# EAGLE library part REG005016 (library REG005016)
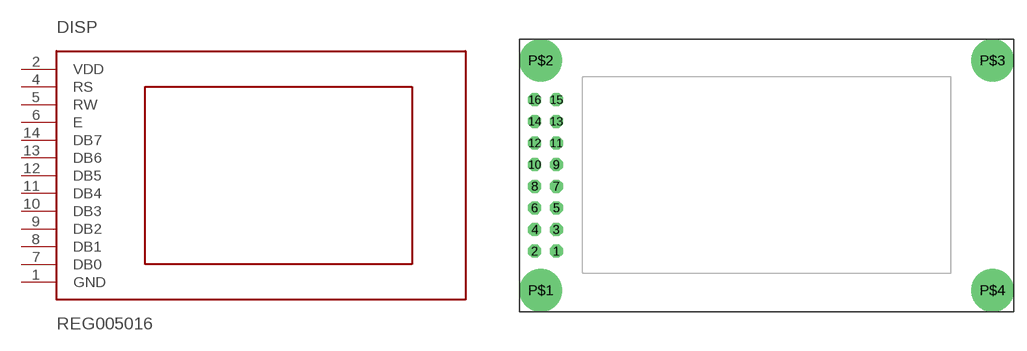
[diagram p0: symbol with the pads of REG005016; footprint REG005016]

Designator prefix DISP

## REG005016  [REG005016]
1  GND
2  VDD
4  RS
5  RW
6  E
7  DB0
8  DB1
9  DB2
10  DB3
11  DB4
12  DB5
13  DB6
14  DB7

## Footprint REG005016 (pad centres in mm)
drill 1.016 octagon: 1 4.31,7.11; 2 1.77,7.11; 3 4.31,9.65; 4 1.77,9.65; 5 4.31,12.19; 6 1.77,12.19; 7 4.31,14.73; 8 1.77,14.73; 9 4.31,17.27; 10 1.77,17.27; 11 4.31,19.81; 12 1.77,19.81; 13 4.31,22.35; 14 1.77,22.35; 15 4.31,24.89; 16 1.77,24.89
drill 2.5 pad 5: P$1 2.5,2.5; P$2 2.5,29.5; P$3 55.5,29.5; P$4 55.5,2.5